# Altium schematic symbol library OPA.SchLib: 6 symbols
Pins are listed as number, name and electrical type; pins without a type are passive.

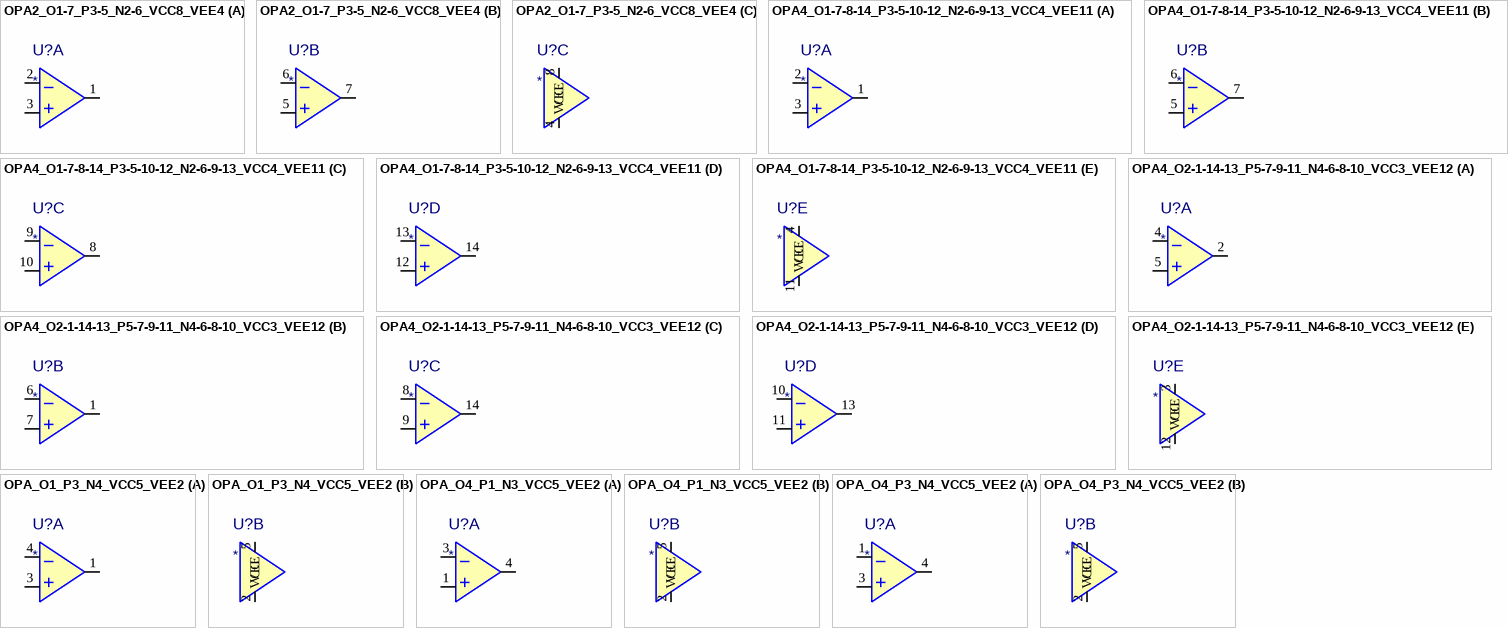
[diagram p0: symbols OPA2_O1-7_P3-5_N2-6_VCC8_VEE4 to OPA_O4_P3_N4_VCC5_VEE2]

## OPA2_O1-7_P3-5_N2-6_VCC8_VEE4
designator U?
part A pins: 1 OUT, 2 IN-, 3 IN+
part B pins: 5 IN+, 6 IN-, 7 OUT
part C pins: 4 VEE, 8 VCC

## OPA4_O1-7-8-14_P3-5-10-12_N2-6-9-13_VCC4_VEE11
designator U?
part A pins: 1 OUT, 2 IN-, 3 IN+
part B pins: 5 IN+, 6 IN-, 7 OUT
part C pins: 8 OUT, 9 IN-, 10 IN+
part D pins: 12 IN+, 13 IN-, 14 OUT
part E pins: 4 VCC, 11 VEE

## OPA4_O2-1-14-13_P5-7-9-11_N4-6-8-10_VCC3_VEE12
designator U?
part A pins: 2 OUT, 4 IN-, 5 IN+
part B pins: 1 OUT, 6 IN-, 7 IN+
part C pins: 8 IN-, 9 IN+, 14 OUT
part D pins: 10 IN-, 11 IN+, 13 OUT
part E pins: 3 VCC, 12 VEE

## OPA_O1_P3_N4_VCC5_VEE2
designator U?
part A pins: 1 OUT, 3 IN+, 4 IN-
part B pins: 2 VEE, 5 VCC

## OPA_O4_P1_N3_VCC5_VEE2
designator U?
part A pins: 1 IN+, 3 IN-, 4 OUT
part B pins: 2 VEE, 5 VCC

## OPA_O4_P3_N4_VCC5_VEE2
designator U?
part A pins: 1 IN-, 3 IN+, 4 OUT
part B pins: 2 VEE, 5 VCC